# Altium integrated library ON Semi Rectifiers.IntLib: 435 symbols (part 6 of 10)
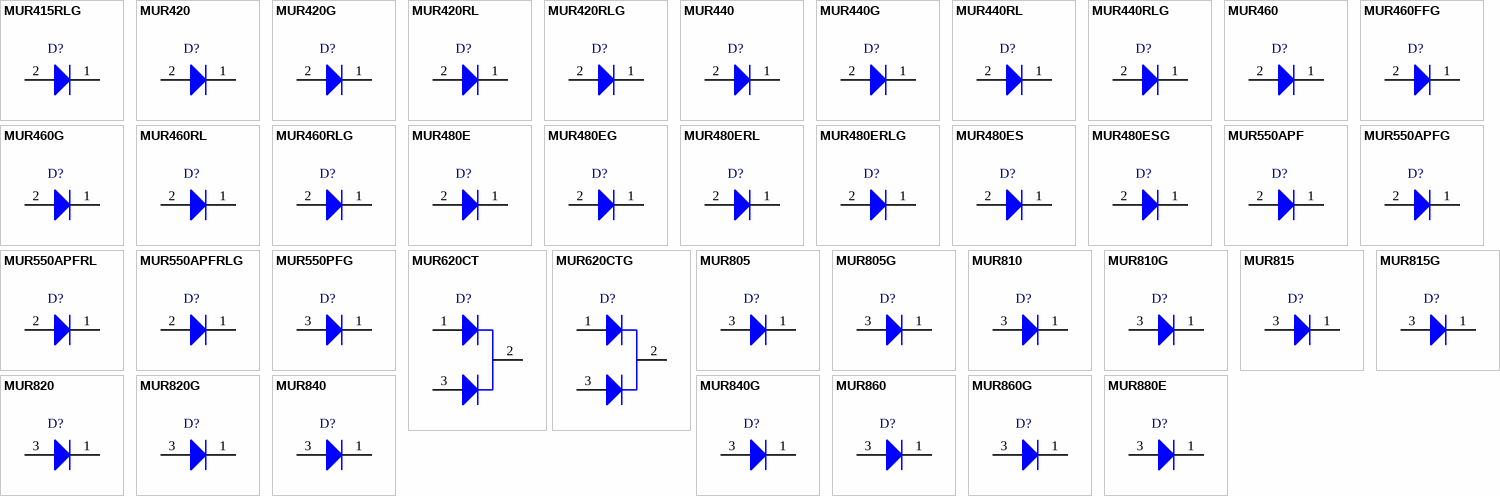
[diagram p15: symbols MUR415RLG to MUR880E]

## MUR860G
designator D?
SWITCHMODE(TM) Power Rectifier, 2-Pin TO-220, Pb-Free, Tube; Manufacturer: On Semiconductor; PartNumber: MUR860G; IFSM Max (A): 100; Type: Ultrafast; VRRM Max (V): 600; DatasheetVersion: Rev. 13; PackageVersion: Rev. F, 04/2013; PackageReference: TO-220-2-221B-04; PackageDescription: 2-Pin Flange Mount, Vertical Straight Lead, Body 9.97 x 4.44 mm, Pitch 5.08 mm; Supplier 1: Digi-Key; Supplier Part Number 1: MUR860GOS-ND; Supplier 2: Farnell; Supplier Part Number 2: 9557512; Supplier 3: Newark; Supplier Part Number 3: 45J1749; Supplier 4: Mouser; Supplier Part Number 4: 863-MUR860G; Packing: Tube; RoHS: TRUE; Mounting Technology: Through Hole; ComponentLink1Description: Manufacturer URL; ComponentLink1URL: http://www.onsemi.com/; ComponentLink2Description: Datasheet; ComponentLink2URL: http://www.onsemi.cn/pub_link/Collateral/MUR820-D.PDF; ComponentLink3Description: Package Specification; ComponentLink3URL: http://www.onsemi.com/pub_link/Collateral/221B-04.PDF
footprint ONSC-TO-220-2-221B-04 (FM, 2-Leads, Body 10.3x4.85mm, Pitch 5.08mm)
pins: 1 K, 3 A

## MUR880E
designator D?
SWITCHMODE(TM) Power Rectifier, Ultrafast 'E' Series with High Reverse Energy Capability, 2-Pin TO-220, Tube; Manufacturer: On Semiconductor; PartNumber: MUR880E; IFSM Max (A): 100; VRRM Max (V): 800; DatasheetVersion: Rev. 4; PackageVersion: Rev. E; PackageReference: TO-220-2-221B-04_E; PackageDescription: 2-Pin Flange Mount, Vertical Straight Lead, Body 9.97 x 4.44 mm, Pitch 5.08 mm; Supplier 1: Digi-Key; Supplier Part Number 1: MUR880EOS-ND; Packing: Tube; RoHS: FALSE; Type: Ultrafast; Mounting Technology: Through Hole; ComponentLink1Description: Manufacturer URL; ComponentLink1URL: http://www.onsemi.com/; ComponentLink2Description: Datasheet; ComponentLink2URL: http://www.onsemi.cn/pub_link/Collateral/MUR8100E-D.PDF; ComponentLink3Description: Package Specification; ComponentLink3URL: http://www.onsemi.com/pub_link/Collateral/BYW29-D.PDF
footprint ONSC-TO-220-2-221B-04_E (FM, 2-Leads, Body 10.3x4.85mm, Pitch 5.08mm)
pins: 1 K, 3 A

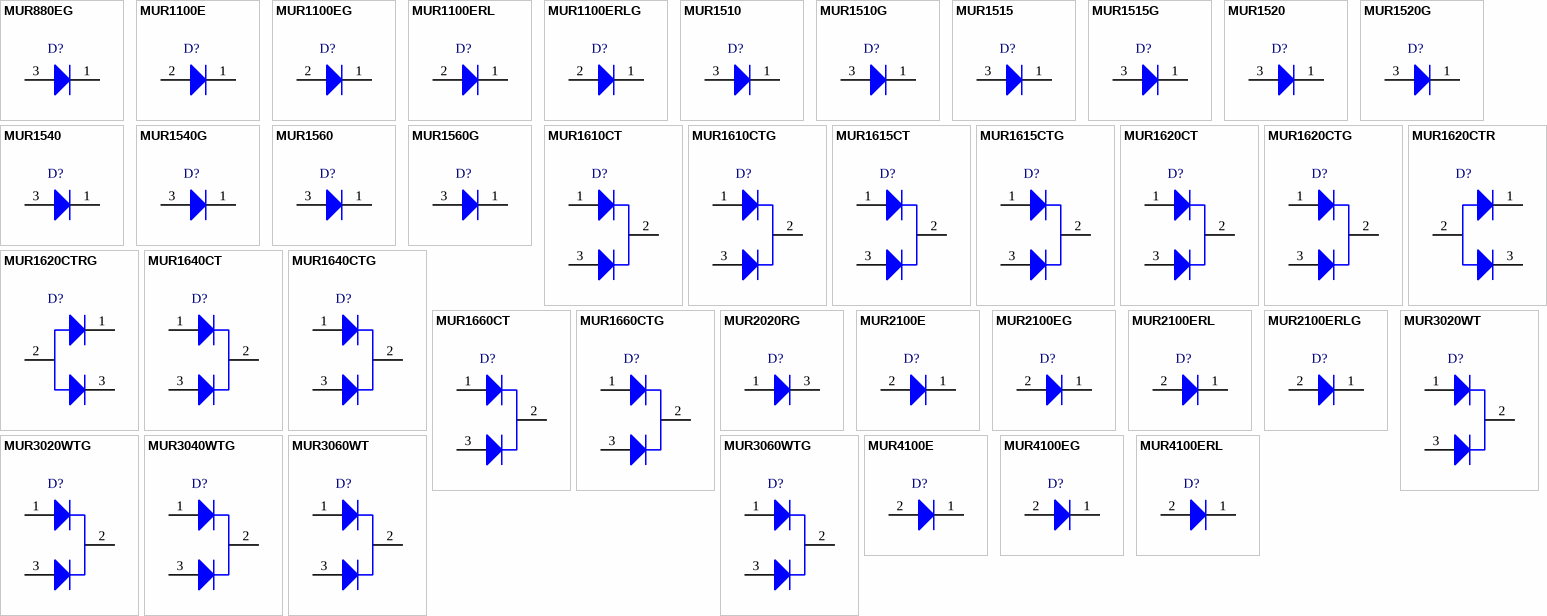
[diagram p6: symbols MUR880EG to MUR4100ERL]

## MUR880EG
designator D?
SWITCHMODE(TM) Power Rectifier, Ultrafast 'E' Series with High Reverse Energy Capability, 2-Pin TO-220, Pb-Free, Tube; Manufacturer: On Semiconductor; PartNumber: MUR880EG; IFSM Max (A): 100; VRRM Max (V): 800; DatasheetVersion: Rev. 4; PackageVersion: Rev. E; PackageReference: TO-220-2-221B-04_E; PackageDescription: 2-Pin Flange Mount, Vertical Straight Lead, Body 9.97 x 4.44 mm, Pitch 5.08 mm; Supplier 1: Digi-Key; Supplier Part Number 1: MUR880EGOS-ND; Supplier 2: Farnell; Supplier Part Number 2: 1130628; Supplier 3: Newark; Supplier Part Number 3: 71J6216; Supplier 4: Mouser; Supplier Part Number 4: 863-MUR880EG; Packing: Tube; RoHS: TRUE; Type: Ultrafast; Mounting Technology: Through Hole; ComponentLink1Description: Manufacturer URL; ComponentLink1URL: http://www.onsemi.com/; ComponentLink2Description: Datasheet; ComponentLink2URL: http://www.onsemi.cn/pub_link/Collateral/MUR8100E-D.PDF; ComponentLink3Description: Package Specification; ComponentLink3URL: http://www.onsemi.com/pub_link/Collateral/BYW29-D.PDF
footprint ONSC-TO-220-2-221B-04_E (FM, 2-Leads, Body 10.3x4.85mm, Pitch 5.08mm)
pins: 1 K, 3 A

## MUR1100E
designator D?
SWITCHMODE(TM) Power Rectifier, Ultrafast 'E' Series with High Reverse Energy Capability, 2-Pin Axial_Lead, Pb-Free, Bulk Bag; Manufacturer: On Semiconductor; PartNumber: MUR1100E; IFSM Max (A): 35; DatasheetVersion: Rev. 4; PackageVersion: Rev. U, 02/2005; PackageReference: AXIAL_LEAD-2-59-10; PackageDescription: 2-Pin, Axial Lead, Diameter 2.35 mm; Supplier 1: Mouser; Supplier Part Number 1: 863-MUR1100E; Packing: Bulk Bag; RoHS: TRUE; Type: Ultrafast; Mounting Technology: Through Hole; ComponentLink1Description: Manufacturer URL; ComponentLink1URL: http://www.onsemi.com/; ComponentLink2Description: Datasheet; ComponentLink2URL: http://www.onsemi.com/pub_link/Collateral/MUR180E-D.PDF; ComponentLink3Description: Package Specification; ComponentLink3URL: http://www.onsemi.cn/pub_link/Collateral/59-10.PDF
footprint ONSC-AXIAL_LEAD-2-59-10_P (AXIAL, 2-Leads, Diameter 2.35mm)
pins: 1 K, 2 A

## MUR1100EG
designator D?
SWITCHMODE(TM) Power Rectifier, Ultrafast 'E' Series with High Reverse Energy Capability, 2-Pin Axial_Lead, Pb-Free, Bulk Bag; Manufacturer: On Semiconductor; PartNumber: MUR1100EG; IFSM Max (A): 35; DatasheetVersion: Rev. 4; PackageVersion: Rev. U, 02/2005; PackageReference: AXIAL_LEAD-2-59-10; PackageDescription: 2-Pin, Axial Lead, Diameter 2.35 mm; Supplier 1: Digi-Key; Supplier Part Number 1: MUR1100EGOS-ND; Supplier 2: Farnell; Supplier Part Number 2: 2317428; Supplier 3: Newark; Supplier Part Number 3: 42K1598; Supplier 4: Mouser; Supplier Part Number 4: 863-MUR1100EG; Packing: Bulk Bag; RoHS: TRUE; Type: Ultrafast; Mounting Technology: Through Hole; ComponentLink1Description: Manufacturer URL; ComponentLink1URL: http://www.onsemi.com/; ComponentLink2Description: Datasheet; ComponentLink2URL: http://www.onsemi.com/pub_link/Collateral/MUR180E-D.PDF; ComponentLink3Description: Package Specification; ComponentLink3URL: http://www.onsemi.cn/pub_link/Collateral/59-10.PDF
footprint ONSC-AXIAL_LEAD-2-59-10_P (AXIAL, 2-Leads, Diameter 2.35mm)
pins: 1 K, 2 A

## MUR1100ERL
designator D?
SWITCHMODE(TM) Power Rectifier, Ultrafast 'E' Series with High Reverse Energy Capability, 2-Pin Axial_Lead, Pb-Free, Tape and Reel; Manufacturer: On Semiconductor; PartNumber: MUR1100ERL; IFSM Max (A): 35; DatasheetVersion: Rev. 4; PackageVersion: Rev. U, 02/2005; PackageReference: AXIAL_LEAD-2-59-10; PackageDescription: 2-Pin, Axial Lead, Diameter 2.35 mm; Supplier 1: Digi-Key; Supplier Part Number 1: MUR1100ERLOSTR-ND; Supplier 2: Mouser; Supplier Part Number 2: 863-MUR1100ERL; Packing: Tape and Reel; RoHS: TRUE; Type: Ultrafast; Mounting Technology: Through Hole; ComponentLink1Description: Manufacturer URL; ComponentLink1URL: http://www.onsemi.com/; ComponentLink2Description: Datasheet; ComponentLink2URL: http://www.onsemi.com/pub_link/Collateral/MUR180E-D.PDF; ComponentLink3Description: Package Specification; ComponentLink3URL: http://www.onsemi.cn/pub_link/Collateral/59-10.PDF
footprint ONSC-AXIAL_LEAD-2-59-10_P (AXIAL, 2-Leads, Diameter 2.35mm)
pins: 1 K, 2 A

## MUR1100ERLG
designator D?
SWITCHMODE(TM) Power Rectifier, Ultrafast 'E' Series with High Reverse Energy Capability, 2-Pin Axial_Lead, Pb-Free, Tape and Reel; Manufacturer: On Semiconductor; PartNumber: MUR1100ERLG; IFSM Max (A): 35; DatasheetVersion: Rev. 4; PackageVersion: Rev. U, 02/2005; PackageReference: AXIAL_LEAD-2-59-10; PackageDescription: 2-Pin, Axial Lead, Diameter 2.35 mm; Supplier 1: Digi-Key; Supplier Part Number 1: MUR1100ERLGOSTR-ND; Supplier 2: Digi-Key; Supplier Part Number 2: MUR1100ERLGOSCT-ND; Supplier 3: Farnell; Supplier Part Number 3: 9557016; Supplier 4: Newark; Supplier Part Number 4: 88H4946; Supplier 5: Newark; Supplier Part Number 5: 38K5828; Supplier 6: Mouser; Supplier Part Number 6: 863-MUR1100ERLG; Packing: Tape and Reel; RoHS: TRUE; Type: Ultrafast; Mounting Technology: Through Hole; ComponentLink1Description: Manufacturer URL; ComponentLink1URL: http://www.onsemi.com/; ComponentLink2Description: Datasheet; ComponentLink2URL: http://www.onsemi.com/pub_link/Collateral/MUR180E-D.PDF; ComponentLink3Description: Package Specification; ComponentLink3URL: http://www.onsemi.cn/pub_link/Collateral/59-10.PDF
footprint ONSC-AXIAL_LEAD-2-59-10_P (AXIAL, 2-Leads, Diameter 2.35mm)
pins: 1 K, 2 A

## MUR1510
designator D?
SWITCHMODE(TM) Power Rectifier, 2-Pin TO-220, Tube; Manufacturer: On Semiconductor; PartNumber: MUR1510; IFSM Max (A): 200; Type: Ultrafast; VRRM Max (V): 100; DatasheetVersion: Rev. 9; PackageVersion: Rev. E; PackageReference: TO-220-2-221B-04_E; PackageDescription: 2-Pin Flange Mount, Vertical Straight Lead, Body 9.97 x 4.44 mm, Pitch 5.08 mm; Supplier 1: Digi-Key; Supplier Part Number 1: MUR1510-ND; Packing: Tube; RoHS: FALSE; Mounting Technology: Through Hole; ComponentLink1Description: Manufacturer URL; ComponentLink1URL: http://www.onsemi.com/; ComponentLink2Description: Datasheet; ComponentLink2URL: http://www.onsemi.com/pub_link/Collateral/MUR1520-D.PDF; ComponentLink3Description: Package Specification; ComponentLink3URL: http://www.onsemi.com/pub_link/Collateral/BYW29-D.PDF
footprint ONSC-TO-220-2-221B-04_E (FM, 2-Leads, Body 10.3x4.85mm, Pitch 5.08mm)
pins: 1 K, 3 A

## MUR1510G
designator D?
SWITCHMODE(TM) Power Rectifier, 2-Pin TO-220, Pb-Free, Tube; Manufacturer: On Semiconductor; PartNumber: MUR1510G; IFSM Max (A): 200; Type: Ultrafast; VRRM Max (V): 100; DatasheetVersion: Rev. 9; PackageVersion: Rev. F, 04/2013; PackageReference: TO-220-2-221B-04; PackageDescription: 2-Pin Flange Mount, Vertical Straight Lead, Body 9.97 x 4.44 mm, Pitch 5.08 mm; Supplier 1: Digi-Key; Supplier Part Number 1: MUR1510GOS-ND; Supplier 2: Farnell; Supplier Part Number 2: 1189450; Supplier 3: Newark; Supplier Part Number 3: 45J1741; Supplier 4: Mouser; Supplier Part Number 4: 863-MUR1510G; Packing: Tube; RoHS: TRUE; Mounting Technology: Through Hole; ComponentLink1Description: Manufacturer URL; ComponentLink1URL: http://www.onsemi.com/; ComponentLink2Description: Datasheet; ComponentLink2URL: http://www.onsemi.com/pub_link/Collateral/MUR1520-D.PDF; ComponentLink3Description: Package Specification; ComponentLink3URL: http://www.onsemi.com/pub_link/Collateral/221B-04.PDF
footprint ONSC-TO-220-2-221B-04 (FM, 2-Leads, Body 10.3x4.85mm, Pitch 5.08mm)
pins: 1 K, 3 A

## MUR1515
designator D?
SWITCHMODE(TM) Power Rectifier, 2-Pin TO-220, Tube; Manufacturer: On Semiconductor; PartNumber: MUR1515; IFSM Max (A): 200; Type: Ultrafast; VRRM Max (V): 150; DatasheetVersion: Rev. 9; PackageVersion: Rev. E; PackageReference: TO-220-2-221B-04_E; PackageDescription: 2-Pin Flange Mount, Vertical Straight Lead, Body 9.97 x 4.44 mm, Pitch 5.08 mm; Supplier 1: Digi-Key; Supplier Part Number 1: MUR1515-ND; Packing: Tube; RoHS: FALSE; Mounting Technology: Through Hole; ComponentLink1Description: Manufacturer URL; ComponentLink1URL: http://www.onsemi.com/; ComponentLink2Description: Datasheet; ComponentLink2URL: http://www.onsemi.com/pub_link/Collateral/MUR1520-D.PDF; ComponentLink3Description: Package Specification; ComponentLink3URL: http://www.onsemi.com/pub_link/Collateral/BYW29-D.PDF
footprint ONSC-TO-220-2-221B-04_E (FM, 2-Leads, Body 10.3x4.85mm, Pitch 5.08mm)
pins: 1 K, 3 A

## MUR1515G
designator D?
SWITCHMODE(TM) Power Rectifier, 2-Pin TO-220, Pb-Free, Tube; Manufacturer: On Semiconductor; PartNumber: MUR1515G; IFSM Max (A): 200; Type: Ultrafast; VRRM Max (V): 150; DatasheetVersion: Rev. 9; PackageVersion: Rev. E; PackageReference: TO-220-2-221B-04_E; PackageDescription: 2-Pin Flange Mount, Vertical Straight Lead, Body 9.97 x 4.44 mm, Pitch 5.08 mm; Supplier 1: Digi-Key; Supplier Part Number 1: MUR1515GOS-ND; Supplier 2: Newark; Supplier Part Number 2: 42K1606; Supplier 3: Mouser; Supplier Part Number 3: 863-MUR1515G; Packing: Tube; RoHS: TRUE; Mounting Technology: Through Hole; ComponentLink1Description: Manufacturer URL; ComponentLink1URL: http://www.onsemi.com/; ComponentLink2Description: Datasheet; ComponentLink2URL: http://www.onsemi.com/pub_link/Collateral/MUR1520-D.PDF; ComponentLink3Description: Package Specification; ComponentLink3URL: http://www.onsemi.com/pub_link/Collateral/BYW29-D.PDF
footprint ONSC-TO-220-2-221B-04_E (FM, 2-Leads, Body 10.3x4.85mm, Pitch 5.08mm)
pins: 1 K, 3 A

## MUR1520
designator D?
SWITCHMODE(TM) Power Rectifier, 2-Pin TO-220, Tube; Manufacturer: On Semiconductor; PartNumber: MUR1520; IFSM Max (A): 200; Type: Ultrafast; DatasheetVersion: Rev. 9; PackageVersion: Rev. E; PackageReference: TO-220-2-221B-04_E; PackageDescription: 2-Pin Flange Mount, Vertical Straight Lead, Body 9.97 x 4.44 mm, Pitch 5.08 mm; Supplier 1: Digi-Key; Supplier Part Number 1: MUR1520OS-ND; Packing: Tube; RoHS: FALSE; VRRM Max (V): 200; Mounting Technology: Through Hole; ComponentLink1Description: Manufacturer URL; ComponentLink1URL: http://www.onsemi.com/; ComponentLink2Description: Datasheet; ComponentLink2URL: http://www.onsemi.com/pub_link/Collateral/MUR1520-D.PDF; ComponentLink3Description: Package Specification; ComponentLink3URL: http://www.onsemi.com/pub_link/Collateral/BYW29-D.PDF
footprint ONSC-TO-220-2-221B-04_E (FM, 2-Leads, Body 10.3x4.85mm, Pitch 5.08mm)
pins: 1 K, 3 A

## MUR1520G
designator D?
SWITCHMODE(TM) Power Rectifier, 2-Pin TO-220, Pb-Free, Tube; Manufacturer: On Semiconductor; PartNumber: MUR1520G; IFSM Max (A): 200; Type: Ultrafast; DatasheetVersion: Rev. 9; PackageVersion: Rev. E; PackageReference: TO-220-2-221B-04_E; PackageDescription: 2-Pin Flange Mount, Vertical Straight Lead, Body 9.97 x 4.44 mm, Pitch 5.08 mm; Supplier 1: Digi-Key; Supplier Part Number 1: MUR1520GOS-ND; Supplier 2: Farnell; Supplier Part Number 2: 9556990; Supplier 3: Newark; Supplier Part Number 3: 98H0862; Supplier 4: Mouser; Supplier Part Number 4: 863-MUR1520G; Packing: Tube; RoHS: TRUE; VRRM Max (V): 200; Mounting Technology: Through Hole; ComponentLink1Description: Manufacturer URL; ComponentLink1URL: http://www.onsemi.com/; ComponentLink2Description: Datasheet; ComponentLink2URL: http://www.onsemi.com/pub_link/Collateral/MUR1520-D.PDF; ComponentLink3Description: Package Specification; ComponentLink3URL: http://www.onsemi.com/pub_link/Collateral/BYW29-D.PDF
footprint ONSC-TO-220-2-221B-04_E (FM, 2-Leads, Body 10.3x4.85mm, Pitch 5.08mm)
pins: 1 K, 3 A

## MUR1540
designator D?
SWITCHMODE(TM) Power Rectifier, 2-Pin TO-220, Tube; Manufacturer: On Semiconductor; PartNumber: MUR1540; IFSM Max (A): 150; Type: Ultrafast; VRRM Max (V): 400; DatasheetVersion: Rev. 9; PackageVersion: Rev. E; PackageReference: TO-220-2-221B-04_E; PackageDescription: 2-Pin Flange Mount, Vertical Straight Lead, Body 9.97 x 4.44 mm, Pitch 5.08 mm; Supplier 1: Digi-Key; Supplier Part Number 1: MUR1540OS-ND; Packing: Tube; RoHS: FALSE; Mounting Technology: Through Hole; ComponentLink1Description: Manufacturer URL; ComponentLink1URL: http://www.onsemi.com/; ComponentLink2Description: Datasheet; ComponentLink2URL: http://www.onsemi.com/pub_link/Collateral/MUR1520-D.PDF; ComponentLink3Description: Package Specification; ComponentLink3URL: http://www.onsemi.com/pub_link/Collateral/BYW29-D.PDF
footprint ONSC-TO-220-2-221B-04_E (FM, 2-Leads, Body 10.3x4.85mm, Pitch 5.08mm)
pins: 1 K, 3 A

## MUR1540G
designator D?
SWITCHMODE(TM) Power Rectifier, 2-Pin TO-220, Pb-Free, Tube; Manufacturer: On Semiconductor; PartNumber: MUR1540G; IFSM Max (A): 150; Type: Ultrafast; VRRM Max (V): 400; DatasheetVersion: Rev. 9; PackageVersion: Rev. E; PackageReference: TO-220-2-221B-04_E; PackageDescription: 2-Pin Flange Mount, Vertical Straight Lead, Body 9.97 x 4.44 mm, Pitch 5.08 mm; Supplier 1: Digi-Key; Supplier Part Number 1: MUR1540GOS-ND; Supplier 2: Farnell; Supplier Part Number 2: 1651051; Supplier 3: Newark; Supplier Part Number 3: 45J1742; Supplier 4: Newark; Supplier Part Number 4: 73T6685; Supplier 5: Mouser; Supplier Part Number 5: 863-MUR1540G; Packing: Tube; RoHS: TRUE; Mounting Technology: Through Hole; ComponentLink1Description: Manufacturer URL; ComponentLink1URL: http://www.onsemi.com/; ComponentLink2Description: Datasheet; ComponentLink2URL: http://www.onsemi.com/pub_link/Collateral/MUR1520-D.PDF; ComponentLink3Description: Package Specification; ComponentLink3URL: http://www.onsemi.com/pub_link/Collateral/BYW29-D.PDF
footprint ONSC-TO-220-2-221B-04_E (FM, 2-Leads, Body 10.3x4.85mm, Pitch 5.08mm)
pins: 1 K, 3 A

## MUR1560
designator D?
SWITCHMODE(TM) Power Rectifier, 2-Pin TO-220, Tube; Manufacturer: On Semiconductor; PartNumber: MUR1560; IFSM Max (A): 150; Type: Ultrafast; VRRM Max (V): 600; DatasheetVersion: Rev. 9; PackageVersion: Rev. E; PackageReference: TO-220-2-221B-04_E; PackageDescription: 2-Pin Flange Mount, Vertical Straight Lead, Body 9.97 x 4.44 mm, Pitch 5.08 mm; Supplier 1: Digi-Key; Supplier Part Number 1: MUR1560OS-ND; Packing: Tube; RoHS: FALSE; Mounting Technology: Through Hole; ComponentLink1Description: Manufacturer URL; ComponentLink1URL: http://www.onsemi.com/; ComponentLink2Description: Datasheet; ComponentLink2URL: http://www.onsemi.com/pub_link/Collateral/MUR1520-D.PDF; ComponentLink3Description: Package Specification; ComponentLink3URL: http://www.onsemi.com/pub_link/Collateral/BYW29-D.PDF
footprint ONSC-TO-220-2-221B-04_E (FM, 2-Leads, Body 10.3x4.85mm, Pitch 5.08mm)
pins: 1 K, 3 A

## MUR1560G
designator D?
SWITCHMODE(TM) Power Rectifier, 2-Pin TO-220, Pb-Free, Tube; Manufacturer: On Semiconductor; PartNumber: MUR1560G; IFSM Max (A): 150; Type: Ultrafast; VRRM Max (V): 600; DatasheetVersion: Rev. 9; PackageVersion: Rev. E; PackageReference: TO-220-2-221B-04_E; PackageDescription: 2-Pin Flange Mount, Vertical Straight Lead, Body 9.97 x 4.44 mm, Pitch 5.08 mm; Supplier 1: Digi-Key; Supplier Part Number 1: MUR1560GOS-ND; Supplier 2: Farnell; Supplier Part Number 2: 9557440; Supplier 3: Newark; Supplier Part Number 3: 98H0863; Supplier 4: Mouser; Supplier Part Number 4: 863-MUR1560G; Packing: Tube; RoHS: TRUE; Mounting Technology: Through Hole; ComponentLink1Description: Manufacturer URL; ComponentLink1URL: http://www.onsemi.com/; ComponentLink2Description: Datasheet; ComponentLink2URL: http://www.onsemi.com/pub_link/Collateral/MUR1520-D.PDF; ComponentLink3Description: Package Specification; ComponentLink3URL: http://www.onsemi.com/pub_link/Collateral/BYW29-D.PDF
footprint ONSC-TO-220-2-221B-04_E (FM, 2-Leads, Body 10.3x4.85mm, Pitch 5.08mm)
pins: 1 K, 3 A

## MUR1610CT
designator D?
SWITCHMODE(TM) Power Rectifier, 3-Pin TO-220, Tube; Manufacturer: On Semiconductor; PartNumber: MUR1610CT; IFSM Max (A): 100; Type: Ultrafast; DatasheetVersion: Rev. 7; PackageVersion: Rev. AF; PackageReference: TO-220-3-221A-09_AF; PackageDescription: 3-Pin Flange Mount, Vertical Straight Lead, Body 9.97 x 4.445 mm, Pitch 2.54 mm; Supplier 1: Digi-Key; Supplier Part Number 1: MUR1610CTOS-ND; Packing: Tube; RoHS: FALSE; VRRM Max (V): 100; Mounting Technology: Through Hole; ComponentLink1Description: Manufacturer URL; ComponentLink1URL: http://www.onsemi.com/; ComponentLink2Description: Datasheet; ComponentLink2URL: http://www.onsemi.cn/pub_link/Collateral/MUR1620CT-D.PDF; ComponentLink3Description: Package Specification; ComponentLink3URL: http://www.onsemi.cn/pub_link/Collateral/MCR8S-D.PDF
footprint ONSC-TO-220-3-221A-09_AF (FM, 3-Leads, Body 10.3x4.85mm, Pitch 2.54mm)
pins: 1 A1, 2 K, 3 A2

## MUR1610CTG
designator D?
SWITCHMODE(TM) Power Rectifier, 3-Pin TO-220, Pb-Free, Tube; Manufacturer: On Semiconductor; PartNumber: MUR1610CTG; IFSM Max (A): 100; Type: Ultrafast; DatasheetVersion: Rev. 7; PackageVersion: Rev. AF; PackageReference: TO-220-3-221A-09_AF; PackageDescription: 3-Pin Flange Mount, Vertical Straight Lead, Body 9.97 x 4.445 mm, Pitch 2.54 mm; Supplier 1: Digi-Key; Supplier Part Number 1: MUR1610CTGOS-ND; Supplier 2: Farnell; Supplier Part Number 2: 1136123; Supplier 3: Newark; Supplier Part Number 3: 42K1609; Supplier 4: Mouser; Supplier Part Number 4: 863-MUR1610CTG; Packing: Tube; RoHS: TRUE; VRRM Max (V): 100; Mounting Technology: Through Hole; ComponentLink1Description: Manufacturer URL; ComponentLink1URL: http://www.onsemi.com/; ComponentLink2Description: Datasheet; ComponentLink2URL: http://www.onsemi.cn/pub_link/Collateral/MUR1620CT-D.PDF; ComponentLink3Description: Package Specification; ComponentLink3URL: http://www.onsemi.cn/pub_link/Collateral/MCR8S-D.PDF
footprint ONSC-TO-220-3-221A-09_AF (FM, 3-Leads, Body 10.3x4.85mm, Pitch 2.54mm)
pins: 1 A1, 2 K, 3 A2

## MUR1615CT
designator D?
SWITCHMODE(TM) Power Rectifier, 3-Pin TO-220, Tube; Manufacturer: On Semiconductor; PartNumber: MUR1615CT; IFSM Max (A): 100; Type: Ultrafast; VRRM Max (V): 150; DatasheetVersion: Rev. 7; PackageVersion: Rev. AF; PackageReference: TO-220-3-221A-09_AF; PackageDescription: 3-Pin Flange Mount, Vertical Straight Lead, Body 9.97 x 4.445 mm, Pitch 2.54 mm; Supplier 1: Digi-Key; Supplier Part Number 1: MUR1615CTOS-ND; Packing: Tube; RoHS: FALSE; Mounting Technology: Through Hole; ComponentLink1Description: Manufacturer URL; ComponentLink1URL: http://www.onsemi.com/; ComponentLink2Description: Datasheet; ComponentLink2URL: http://www.onsemi.cn/pub_link/Collateral/MUR1620CT-D.PDF; ComponentLink3Description: Package Specification; ComponentLink3URL: http://www.onsemi.cn/pub_link/Collateral/MCR8S-D.PDF
footprint ONSC-TO-220-3-221A-09_AF (FM, 3-Leads, Body 10.3x4.85mm, Pitch 2.54mm)
pins: 1 A1, 2 K, 3 A2

## MUR1615CTG
designator D?
SWITCHMODE(TM) Power Rectifier, 3-Pin TO-220, Pb-Free, Tube; Manufacturer: On Semiconductor; PartNumber: MUR1615CTG; IFSM Max (A): 100; Type: Ultrafast; VRRM Max (V): 150; DatasheetVersion: Rev. 7; PackageVersion: Rev. AF; PackageReference: TO-220-3-221A-09_AF; PackageDescription: 3-Pin Flange Mount, Vertical Straight Lead, Body 9.97 x 4.445 mm, Pitch 2.54 mm; Supplier 1: Digi-Key; Supplier Part Number 1: MUR1615CTGOS-ND; Supplier 2: Newark; Supplier Part Number 2: 42K1610; Supplier 3: Mouser; Supplier Part Number 3: 863-MUR1615CTG; Packing: Tube; RoHS: TRUE; Mounting Technology: Through Hole; ComponentLink1Description: Manufacturer URL; ComponentLink1URL: http://www.onsemi.com/; ComponentLink2Description: Datasheet; ComponentLink2URL: http://www.onsemi.cn/pub_link/Collateral/MUR1620CT-D.PDF; ComponentLink3Description: Package Specification; ComponentLink3URL: http://www.onsemi.cn/pub_link/Collateral/MCR8S-D.PDF
footprint ONSC-TO-220-3-221A-09_AF (FM, 3-Leads, Body 10.3x4.85mm, Pitch 2.54mm)
pins: 1 A1, 2 K, 3 A2

## MUR1620CT
designator D?
SWITCHMODE(TM) Power Rectifier, 3-Pin TO-220, Tube; Manufacturer: On Semiconductor; PartNumber: MUR1620CT; IFSM Max (A): 100; Type: Ultrafast; VRRM Max (V): 200; DatasheetVersion: Rev. 7; PackageVersion: Rev. AF; PackageReference: TO-220-3-221A-09_AF; PackageDescription: 3-Pin Flange Mount, Vertical Straight Lead, Body 9.97 x 4.445 mm, Pitch 2.54 mm; Supplier 1: Digi-Key; Supplier Part Number 1: MUR1620CTOS-ND; Packing: Tube; RoHS: FALSE; Mounting Technology: Through Hole; ComponentLink1Description: Manufacturer URL; ComponentLink1URL: http://www.onsemi.com/; ComponentLink2Description: Datasheet; ComponentLink2URL: http://www.onsemi.cn/pub_link/Collateral/MUR1620CT-D.PDF; ComponentLink3Description: Package Specification; ComponentLink3URL: http://www.onsemi.cn/pub_link/Collateral/MCR8S-D.PDF
footprint ONSC-TO-220-3-221A-09_AF (FM, 3-Leads, Body 10.3x4.85mm, Pitch 2.54mm)
pins: 1 A1, 2 K, 3 A2

## MUR1620CTG
designator D?
SWITCHMODE(TM) Power Rectifier, 3-Pin TO-220, Pb-Free, Tube; Manufacturer: On Semiconductor; PartNumber: MUR1620CTG; IFSM Max (A): 100; Type: Ultrafast; VRRM Max (V): 200; DatasheetVersion: Rev. 7; PackageVersion: Rev. AF; PackageReference: TO-220-3-221A-09_AF; PackageDescription: 3-Pin Flange Mount, Vertical Straight Lead, Body 9.97 x 4.445 mm, Pitch 2.54 mm; Supplier 1: Digi-Key; Supplier Part Number 1: MUR1620CTGOS-ND; Supplier 2: Farnell; Supplier Part Number 2: 9557482; Supplier 3: Newark; Supplier Part Number 3: 45J1743; Supplier 4: Mouser; Supplier Part Number 4: 863-MUR1620CTG; Packing: Tube; RoHS: TRUE; Mounting Technology: Through Hole; ComponentLink1Description: Manufacturer URL; ComponentLink1URL: http://www.onsemi.com/; ComponentLink2Description: Datasheet; ComponentLink2URL: http://www.onsemi.cn/pub_link/Collateral/MUR1620CT-D.PDF; ComponentLink3Description: Package Specification; ComponentLink3URL: http://www.onsemi.cn/pub_link/Collateral/MCR8S-D.PDF
footprint ONSC-TO-220-3-221A-09_AF (FM, 3-Leads, Body 10.3x4.85mm, Pitch 2.54mm)
pins: 1 A1, 2 K, 3 A2

## MUR1620CTR
designator D?
SWITCHMODE(TM) Power Rectifier, 3-Pin TO-220, Tube; Manufacturer: On Semiconductor; PartNumber: MUR1620CTR; IFSM Max (A): 100; Type: Ultrafast; VRRM Max (V): 200; DatasheetVersion: Rev. 8; PackageVersion: Rev. AG, 09/2011; PackageReference: TO-220-3-221A-09; PackageDescription: 3-Pin Flange Mount, Vertical Straight Lead, Body 9.97 x 4.445 mm, Pitch 2.54 mm; Supplier 1: Digi-Key; Supplier Part Number 1: MUR1620CTROS-ND; Packing: Tube; RoHS: FALSE; Mounting Technology: Through Hole; ComponentLink1Description: Manufacturer URL; ComponentLink1URL: http://www.onsemi.com/; ComponentLink2Description: Datasheet; ComponentLink2URL: http://www.onsemi.cn/pub_link/Collateral/MUR1620CTR-D.PDF; ComponentLink3Description: Package Specification; ComponentLink3URL: http://www.onsemi.com/pub_link/Collateral/221A-09.PDF
footprint ONSC-TO-220-3-221A-09 (FM, 3-Leads, Body 10.3x4.85mm, Pitch 2.54mm)
pins: 1 K1, 2 A, 3 K2

## MUR1620CTRG
designator D?
SWITCHMODE(TM) Power Rectifier, 3-Pin TO-220, Pb-Free, Tube; Manufacturer: On Semiconductor; PartNumber: MUR1620CTRG; IFSM Max (A): 100; Type: Ultrafast; VRRM Max (V): 200; DatasheetVersion: Rev. 8; PackageVersion: Rev. AG, 09/2011; PackageReference: TO-220-3-221A-09; PackageDescription: 3-Pin Flange Mount, Vertical Straight Lead, Body 9.97 x 4.445 mm, Pitch 2.54 mm; Supplier 1: Digi-Key; Supplier Part Number 1: MUR1620CTRGOS-ND; Supplier 2: Farnell; Supplier Part Number 2: 1459141; Supplier 3: Newark; Supplier Part Number 3: 71J6213; Supplier 4: Mouser; Supplier Part Number 4: 863-MUR1620CTRG; Packing: Tube; RoHS: TRUE; Mounting Technology: Through Hole; ComponentLink1Description: Manufacturer URL; ComponentLink1URL: http://www.onsemi.com/; ComponentLink2Description: Datasheet; ComponentLink2URL: http://www.onsemi.cn/pub_link/Collateral/MUR1620CTR-D.PDF; ComponentLink3Description: Package Specification; ComponentLink3URL: http://www.onsemi.com/pub_link/Collateral/221A-09.PDF
footprint ONSC-TO-220-3-221A-09 (FM, 3-Leads, Body 10.3x4.85mm, Pitch 2.54mm)
pins: 1 K1, 2 A, 3 K2

## MUR1640CT
designator D?
SWITCHMODE(TM) Power Rectifier, 3-Pin TO-220, Tube; Manufacturer: On Semiconductor; PartNumber: MUR1640CT; IFSM Max (A): 100; Type: Ultrafast; VRRM Max (V): 400; DatasheetVersion: Rev. 7; PackageVersion: Rev. AF; PackageReference: TO-220-3-221A-09_AF; PackageDescription: 3-Pin Flange Mount, Vertical Straight Lead, Body 9.97 x 4.445 mm, Pitch 2.54 mm; Supplier 1: Digi-Key; Supplier Part Number 1: MUR1640CTOS-ND; Packing: Tube; RoHS: FALSE; Mounting Technology: Through Hole; ComponentLink1Description: Manufacturer URL; ComponentLink1URL: http://www.onsemi.com/; ComponentLink2Description: Datasheet; ComponentLink2URL: http://www.onsemi.cn/pub_link/Collateral/MUR1620CT-D.PDF; ComponentLink3Description: Package Specification; ComponentLink3URL: http://www.onsemi.cn/pub_link/Collateral/MCR8S-D.PDF
footprint ONSC-TO-220-3-221A-09_AF (FM, 3-Leads, Body 10.3x4.85mm, Pitch 2.54mm)
pins: 1 A1, 2 K, 3 A2

## MUR1640CTG
designator D?
SWITCHMODE(TM) Power Rectifier, 3-Pin TO-220, Pb-Free, Tube; Manufacturer: On Semiconductor; PartNumber: MUR1640CTG; IFSM Max (A): 100; Type: Ultrafast; VRRM Max (V): 400; DatasheetVersion: Rev. 7; PackageVersion: Rev. AF; PackageReference: TO-220-3-221A-09_AF; PackageDescription: 3-Pin Flange Mount, Vertical Straight Lead, Body 9.97 x 4.445 mm, Pitch 2.54 mm; Supplier 1: Digi-Key; Supplier Part Number 1: MUR1640CTGOS-ND; Supplier 2: Farnell; Supplier Part Number 2: 1459142; Supplier 3: Newark; Supplier Part Number 3: 45J1744; Supplier 4: Mouser; Supplier Part Number 4: 863-MUR1640CTG; Packing: Tube; RoHS: TRUE; Mounting Technology: Through Hole; ComponentLink1Description: Manufacturer URL; ComponentLink1URL: http://www.onsemi.com/; ComponentLink2Description: Datasheet; ComponentLink2URL: http://www.onsemi.cn/pub_link/Collateral/MUR1620CT-D.PDF; ComponentLink3Description: Package Specification; ComponentLink3URL: http://www.onsemi.cn/pub_link/Collateral/MCR8S-D.PDF
footprint ONSC-TO-220-3-221A-09_AF (FM, 3-Leads, Body 10.3x4.85mm, Pitch 2.54mm)
pins: 1 A1, 2 K, 3 A2

## MUR1660CT
designator D?
SWITCHMODE(TM) Power Rectifier, 3-Pin TO-220, Tube; Manufacturer: On Semiconductor; PartNumber: MUR1660CT; IFSM Max (A): 100; Type: Ultrafast; VRRM Max (V): 600; DatasheetVersion: Rev. 7; PackageVersion: Rev. AF; PackageReference: TO-220-3-221A-09_AF; PackageDescription: 3-Pin Flange Mount, Vertical Straight Lead, Body 9.97 x 4.445 mm, Pitch 2.54 mm; Supplier 1: Digi-Key; Supplier Part Number 1: MUR1660CTOS-ND; Packing: Tube; RoHS: FALSE; Mounting Technology: Through Hole; ComponentLink1Description: Manufacturer URL; ComponentLink1URL: http://www.onsemi.com/; ComponentLink2Description: Datasheet; ComponentLink2URL: http://www.onsemi.cn/pub_link/Collateral/MUR1620CT-D.PDF; ComponentLink3Description: Package Specification; ComponentLink3URL: http://www.onsemi.cn/pub_link/Collateral/MCR8S-D.PDF
footprint ONSC-TO-220-3-221A-09_AF (FM, 3-Leads, Body 10.3x4.85mm, Pitch 2.54mm)
pins: 1 A1, 2 K, 3 A2

## MUR1660CTG
designator D?
SWITCHMODE(TM) Power Rectifier, 3-Pin TO-220, Pb-Free, Tube; Manufacturer: On Semiconductor; PartNumber: MUR1660CTG; IFSM Max (A): 100; Type: Ultrafast; VRRM Max (V): 600; DatasheetVersion: Rev. 7; PackageVersion: Rev. AF; PackageReference: TO-220-3-221A-09_AF; PackageDescription: 3-Pin Flange Mount, Vertical Straight Lead, Body 9.97 x 4.445 mm, Pitch 2.54 mm; Supplier 1: Digi-Key; Supplier Part Number 1: MUR1660CTGOS-ND; Supplier 2: Farnell; Supplier Part Number 2: 9557504; Supplier 3: Newark; Supplier Part Number 3: 71J6214; Supplier 4: Mouser; Supplier Part Number 4: 863-MUR1660CTG; Packing: Tube; RoHS: TRUE; Mounting Technology: Through Hole; ComponentLink1Description: Manufacturer URL; ComponentLink1URL: http://www.onsemi.com/; ComponentLink2Description: Datasheet; ComponentLink2URL: http://www.onsemi.cn/pub_link/Collateral/MUR1620CT-D.PDF; ComponentLink3Description: Package Specification; ComponentLink3URL: http://www.onsemi.cn/pub_link/Collateral/MCR8S-D.PDF
footprint ONSC-TO-220-3-221A-09_AF (FM, 3-Leads, Body 10.3x4.85mm, Pitch 2.54mm)
pins: 1 A1, 2 K, 3 A2

## MUR2020RG
designator D?
SWITCHMODE(TM) Ultrafast Power Rectifier, 2-Pin TO-220, Pb-Free, Tube; Manufacturer: On Semiconductor; PartNumber: MUR2020RG; IFSM Max (A): 250; VRRM Max (V): 200; DatasheetVersion: Rev. 5; PackageVersion: Rev. F, 04/2013; PackageReference: TO-220-2-221B-04; PackageDescription: 2-Pin Flange Mount, Vertical Straight Lead, Body 9.97 x 4.44 mm, Pitch 5.08 mm; Supplier 1: Digi-Key; Supplier Part Number 1: MUR2020RGOS-ND; Supplier 2: Farnell; Supplier Part Number 2: 1136126; Supplier 3: Newark; Supplier Part Number 3: 42K1613; Supplier 4: Mouser; Supplier Part Number 4: 863-MUR2020RG; Packing: Tube; RoHS: TRUE; Type: Ultrafast; Mounting Technology: Through Hole; ComponentLink1Description: Manufacturer URL; ComponentLink1URL: http://www.onsemi.com/; ComponentLink2Description: Datasheet; ComponentLink2URL: http://www.onsemi.cn/pub_link/Collateral/MUR2020R-D.PDF; ComponentLink3Description: Package Specification; ComponentLink3URL: http://www.onsemi.com/pub_link/Collateral/221B-04.PDF
footprint ONSC-TO-220-2-221B-04 (FM, 2-Leads, Body 10.3x4.85mm, Pitch 5.08mm)
pins: 1 A, 3 K

## MUR2100E
designator D?
SWITCHMODE(TM) Power Rectifier, Ultrafast 'E' Series with High Reverse Energy Capability, 2-Pin Axial_Lead, Pb-Free, Bulk Box; Manufacturer: On Semiconductor; PartNumber: MUR2100E; IFSM Max (A): 35; VRRM Max (V): 1000; DatasheetVersion: Rev. 6; PackageVersion: Rev. U, 02/2005; PackageReference: AXIAL_LEAD-2-59-10; PackageDescription: 2-Pin, Axial Lead, Diameter 2.35 mm; Supplier 1: Digi-Key; Supplier Part Number 1: MUR2100E-ND; Supplier 2: Mouser; Supplier Part Number 2: 863-MUR2100E; Packing: Bulk Box; RoHS: TRUE; Type: Ultrafast; Mounting Technology: Through Hole; ComponentLink1Description: Manufacturer URL; ComponentLink1URL: http://www.onsemi.com/; ComponentLink2Description: Datasheet; ComponentLink2URL: http://www.onsemi.cn/pub_link/Collateral/MUR2100E-D.PDF; ComponentLink3Description: Package Specification; ComponentLink3URL: http://www.onsemi.cn/pub_link/Collateral/59-10.PDF
footprint ONSC-AXIAL_LEAD-2-59-10_P (AXIAL, 2-Leads, Diameter 2.35mm)
pins: 1 K, 2 A

## MUR2100EG
designator D?
SWITCHMODE(TM) Power Rectifier, Ultrafast 'E' Series with High Reverse Energy Capability, 2-Pin Axial_Lead, Pb-Free, Bulk Bag; Manufacturer: On Semiconductor; PartNumber: MUR2100EG; IFSM Max (A): 35; VRRM Max (V): 1000; DatasheetVersion: Rev. 6; PackageVersion: Rev. U, 02/2005; PackageReference: AXIAL_LEAD-2-59-10; PackageDescription: 2-Pin, Axial Lead, Diameter 2.35 mm; Supplier 1: Digi-Key; Supplier Part Number 1: MUR2100EGOS-ND; Supplier 2: Farnell; Supplier Part Number 2: 1459143; Supplier 3: Newark; Supplier Part Number 3: 42K1616; Supplier 4: Mouser; Supplier Part Number 4: 863-MUR2100EG; Packing: Bulk Bag; RoHS: TRUE; Type: Ultrafast; Mounting Technology: Through Hole; ComponentLink1Description: Manufacturer URL; ComponentLink1URL: http://www.onsemi.com/; ComponentLink2Description: Datasheet; ComponentLink2URL: http://www.onsemi.cn/pub_link/Collateral/MUR2100E-D.PDF; ComponentLink3Description: Package Specification; ComponentLink3URL: http://www.onsemi.cn/pub_link/Collateral/59-10.PDF
footprint ONSC-AXIAL_LEAD-2-59-10_P (AXIAL, 2-Leads, Diameter 2.35mm)
pins: 1 K, 2 A

## MUR2100ERL
designator D?
SWITCHMODE(TM) Power Rectifier, Ultrafast 'E' Series with High Reverse Energy Capability, 2-Pin Axial_Lead, Pb-Free, Tape and Reel; Manufacturer: On Semiconductor; PartNumber: MUR2100ERL; IFSM Max (A): 35; VRRM Max (V): 1000; DatasheetVersion: Rev. 6; PackageVersion: Rev. U, 02/2005; PackageReference: AXIAL_LEAD-2-59-10; PackageDescription: 2-Pin, Axial Lead, Diameter 2.35 mm; Supplier 1: Digi-Key; Supplier Part Number 1: MUR2100ERL-ND; Supplier 2: Mouser; Supplier Part Number 2: 863-MUR2100ERL; Packing: Tape and Reel; RoHS: TRUE; Type: Ultrafast; Mounting Technology: Through Hole; ComponentLink1Description: Manufacturer URL; ComponentLink1URL: http://www.onsemi.com/; ComponentLink2Description: Datasheet; ComponentLink2URL: http://www.onsemi.cn/pub_link/Collateral/MUR2100E-D.PDF; ComponentLink3Description: Package Specification; ComponentLink3URL: http://www.onsemi.cn/pub_link/Collateral/59-10.PDF
footprint ONSC-AXIAL_LEAD-2-59-10_P (AXIAL, 2-Leads, Diameter 2.35mm)
pins: 1 K, 2 A

## MUR2100ERLG
designator D?
SWITCHMODE(TM) Power Rectifier, Ultrafast 'E' Series with High Reverse Energy Capability, 2-Pin Axial_Lead, Pb-Free, Tape and Reel; Manufacturer: On Semiconductor; PartNumber: MUR2100ERLG; IFSM Max (A): 35; VRRM Max (V): 1000; DatasheetVersion: Rev. 6; PackageVersion: Rev. U, 02/2005; PackageReference: AXIAL_LEAD-2-59-10; PackageDescription: 2-Pin, Axial Lead, Diameter 2.35 mm; Supplier 1: Digi-Key; Supplier Part Number 1: MUR2100ERLGOSTR-ND; Supplier 2: Digi-Key; Supplier Part Number 2: MUR2100ERLGOSCT-ND; Supplier 3: Newark; Supplier Part Number 3: 42K1617; Supplier 4: Mouser; Supplier Part Number 4: 863-MUR2100ERLG; Packing: Tape and Reel; RoHS: TRUE; Type: Ultrafast; Mounting Technology: Through Hole; ComponentLink1Description: Manufacturer URL; ComponentLink1URL: http://www.onsemi.com/; ComponentLink2Description: Datasheet; ComponentLink2URL: http://www.onsemi.cn/pub_link/Collateral/MUR2100E-D.PDF; ComponentLink3Description: Package Specification; ComponentLink3URL: http://www.onsemi.cn/pub_link/Collateral/59-10.PDF
footprint ONSC-AXIAL_LEAD-2-59-10_P (AXIAL, 2-Leads, Diameter 2.35mm)
pins: 1 K, 2 A

## MUR3020WT
designator D?
SWITCHMODE(TM) Power Rectifier, 3-Pin TO-247, Tube; Manufacturer: On Semiconductor; PartNumber: MUR3020WT; IFSM Max (A): 200; Type: Ultrafast; DatasheetVersion: Rev. 6; PackageVersion: Rev. F, 10/2011; PackageReference: TO-247-3-340L-02; PackageDescription: 3-Pin Flange Mount, Vertical Straight Lead, Body 16.005 x 5 mm, Pitch 5.45 mm; Supplier 1: Digi-Key; Supplier Part Number 1: MUR3020WTOS-ND; Packing: Tube; RoHS: FALSE; VRRM Max (V): 200; Mounting Technology: Through Hole; ComponentLink1Description: Manufacturer URL; ComponentLink1URL: http://www.onsemi.com/; ComponentLink2Description: Datasheet; ComponentLink2URL: http://www.onsemi.cn/pub_link/Collateral/MUR3020WT-D.PDF; ComponentLink3Description: Package Specification; ComponentLink3URL: http://www.onsemi.cn/pub_link/Collateral/340L-02.PDF
footprint ONSC-TO-247-3-340L-02 (FM, 3-Leads, Body 16.3x5.3mm, Pitch 5.45mm)
pins: 1 A1, 2 K, 3 A2

## MUR3020WTG
designator D?
SWITCHMODE(TM) Power Rectifier, 3-Pin TO-247, Pb-Free, Tube; Manufacturer: On Semiconductor; PartNumber: MUR3020WTG; IFSM Max (A): 200; Type: Ultrafast; DatasheetVersion: Rev. 6; PackageVersion: Rev. F, 10/2011; PackageReference: TO-247-3-340L-02; PackageDescription: 3-Pin Flange Mount, Vertical Straight Lead, Body 16.005 x 5 mm, Pitch 5.45 mm; Supplier 1: Digi-Key; Supplier Part Number 1: MUR3020WTGOS-ND; Supplier 2: Newark; Supplier Part Number 2: 45J1746; Supplier 3: Mouser; Supplier Part Number 3: 863-MUR3020WTG; Packing: Tube; RoHS: TRUE; VRRM Max (V): 200; Mounting Technology: Through Hole; ComponentLink1Description: Manufacturer URL; ComponentLink1URL: http://www.onsemi.com/; ComponentLink2Description: Datasheet; ComponentLink2URL: http://www.onsemi.cn/pub_link/Collateral/MUR3020WT-D.PDF; ComponentLink3Description: Package Specification; ComponentLink3URL: http://www.onsemi.cn/pub_link/Collateral/340L-02.PDF
footprint ONSC-TO-247-3-340L-02 (FM, 3-Leads, Body 16.3x5.3mm, Pitch 5.45mm)
pins: 1 A1, 2 K, 3 A2

## MUR3040WTG
designator D?
SWITCHMODE(TM) Power Rectifier, 3-Pin TO-247, Pb-Free, Tube; Manufacturer: On Semiconductor; PartNumber: MUR3040WTG; IFSM Max (A): 150; Type: Ultrafast; VRRM Max (V): 400; DatasheetVersion: Rev. 6; PackageVersion: Rev. F, 10/2011; PackageReference: TO-247-3-340L-02; PackageDescription: 3-Pin Flange Mount, Vertical Straight Lead, Body 16.005 x 5 mm, Pitch 5.45 mm; Supplier 1: Digi-Key; Supplier Part Number 1: MUR3040WTGOS-ND; Supplier 2: Newark; Supplier Part Number 2: 52T8182; Supplier 3: Mouser; Supplier Part Number 3: 863-MUR3040WTG; Packing: Tube; RoHS: TRUE; Mounting Technology: Through Hole; ComponentLink1Description: Manufacturer URL; ComponentLink1URL: http://www.onsemi.com/; ComponentLink2Description: Datasheet; ComponentLink2URL: http://www.onsemi.cn/pub_link/Collateral/MUR3020WT-D.PDF; ComponentLink3Description: Package Specification; ComponentLink3URL: http://www.onsemi.cn/pub_link/Collateral/340L-02.PDF
footprint ONSC-TO-247-3-340L-02 (FM, 3-Leads, Body 16.3x5.3mm, Pitch 5.45mm)
pins: 1 A1, 2 K, 3 A2

## MUR3060WT
designator D?
SWITCHMODE(TM) Power Rectifier, 3-Pin TO-247, Tube; Manufacturer: On Semiconductor; PartNumber: MUR3060WT; IFSM Max (A): 150; Type: Ultrafast; VRRM Max (V): 600; DatasheetVersion: Rev. 6; PackageVersion: Rev. F, 10/2011; PackageReference: TO-247-3-340L-02; PackageDescription: 3-Pin Flange Mount, Vertical Straight Lead, Body 16.005 x 5 mm, Pitch 5.45 mm; Supplier 1: Digi-Key; Supplier Part Number 1: MUR3060WTOS-ND; Packing: Tube; RoHS: FALSE; Mounting Technology: Through Hole; ComponentLink1Description: Manufacturer URL; ComponentLink1URL: http://www.onsemi.com/; ComponentLink2Description: Datasheet; ComponentLink2URL: http://www.onsemi.cn/pub_link/Collateral/MUR3020WT-D.PDF; ComponentLink3Description: Package Specification; ComponentLink3URL: http://www.onsemi.cn/pub_link/Collateral/340L-02.PDF
footprint ONSC-TO-247-3-340L-02 (FM, 3-Leads, Body 16.3x5.3mm, Pitch 5.45mm)
pins: 1 A1, 2 K, 3 A2

## MUR3060WTG
designator D?
SWITCHMODE(TM) Power Rectifier, 3-Pin TO-247, Pb-Free, Tube; Manufacturer: On Semiconductor; PartNumber: MUR3060WTG; IFSM Max (A): 150; Type: Ultrafast; VRRM Max (V): 600; DatasheetVersion: Rev. 6; PackageVersion: Rev. F, 10/2011; PackageReference: TO-247-3-340L-02; PackageDescription: 3-Pin Flange Mount, Vertical Straight Lead, Body 16.005 x 5 mm, Pitch 5.45 mm; Supplier 1: Digi-Key; Supplier Part Number 1: MUR3060WTGOS-ND; Supplier 2: Farnell; Supplier Part Number 2: 2101230; Supplier 3: Newark; Supplier Part Number 3: 26K4706; Supplier 4: Mouser; Supplier Part Number 4: 863-MUR3060WTG; Packing: Tube; RoHS: TRUE; Mounting Technology: Through Hole; ComponentLink1Description: Manufacturer URL; ComponentLink1URL: http://www.onsemi.com/; ComponentLink2Description: Datasheet; ComponentLink2URL: http://www.onsemi.cn/pub_link/Collateral/MUR3020WT-D.PDF; ComponentLink3Description: Package Specification; ComponentLink3URL: http://www.onsemi.cn/pub_link/Collateral/340L-02.PDF
footprint ONSC-TO-247-3-340L-02 (FM, 3-Leads, Body 16.3x5.3mm, Pitch 5.45mm)
pins: 1 A1, 2 K, 3 A2

## MUR4100E
designator D?
SWITCHMODE(TM) Power Rectifier, Ultrafast 'E' Series with High Reverse Energy Capability, 2-Pin Axial_Lead, Pb-Free, Bulk Box; Manufacturer: On Semiconductor; PartNumber: MUR4100E; IFSM Max (A): 70; DatasheetVersion: Rev. 9; PackageVersion: Rev. G, 06/2000; PackageReference: AXIAL_LEAD-2-267-05; PackageDescription: 2-Pin, Axial Lead, Diameter 5.05 mm; Supplier 1: Digi-Key; Supplier Part Number 1: MUR4100E-ND; Supplier 2: Mouser; Supplier Part Number 2: 863-MUR4100E; Packing: Bulk Box; RoHS: TRUE; Type: Ultrafast; Mounting Technology: Through Hole; ComponentLink1Description: Manufacturer URL; ComponentLink1URL: http://www.onsemi.com/; ComponentLink2Description: Datasheet; ComponentLink2URL: http://www.onsemi.cn/pub_link/Collateral/MUR480E-D.PDF; ComponentLink3Description: Package Specification; ComponentLink3URL: http://www.onsemi.com/pub_link/Collateral/267-05.PDF
footprint ONSC-AXIAL_LEAD-2-267-05_V (AXIAL, 2-Leads, Diameter 5.05mm)
pins: 1 K, 2 A

## MUR4100EG
designator D?
SWITCHMODE(TM) Power Rectifier, Ultrafast 'E' Series with High Reverse Energy Capability, 2-Pin Axial_Lead, Pb-Free, Bulk Box; Manufacturer: On Semiconductor; PartNumber: MUR4100EG; IFSM Max (A): 70; DatasheetVersion: Rev. 9; PackageVersion: Rev. G, 06/2000; PackageReference: AXIAL_LEAD-2-267-05; PackageDescription: 2-Pin, Axial Lead, Diameter 5.05 mm; Supplier 1: Digi-Key; Supplier Part Number 1: MUR4100EGOS-ND; Supplier 2: Farnell; Supplier Part Number 2: 2101185; Supplier 3: Newark; Supplier Part Number 3: 42K1627; Supplier 4: Mouser; Supplier Part Number 4: 863-MUR4100EG; Packing: Bulk Box; RoHS: TRUE; Type: Ultrafast; Mounting Technology: Through Hole; ComponentLink1Description: Manufacturer URL; ComponentLink1URL: http://www.onsemi.com/; ComponentLink2Description: Datasheet; ComponentLink2URL: http://www.onsemi.cn/pub_link/Collateral/MUR480E-D.PDF; ComponentLink3Description: Package Specification; ComponentLink3URL: http://www.onsemi.com/pub_link/Collateral/267-05.PDF
footprint ONSC-AXIAL_LEAD-2-267-05_V (AXIAL, 2-Leads, Diameter 5.05mm)
pins: 1 K, 2 A

## MUR4100ERL
designator D?
SWITCHMODE(TM) Power Rectifier, Ultrafast 'E' Series with High Reverse Energy Capability, 2-Pin Axial_Lead, Pb-Free, Tape and Reel; Manufacturer: On Semiconductor; PartNumber: MUR4100ERL; IFSM Max (A): 70; DatasheetVersion: Rev. 9; PackageVersion: Rev. G, 06/2000; PackageReference: AXIAL_LEAD-2-267-05; PackageDescription: 2-Pin, Axial Lead, Diameter 5.05 mm; Supplier 1: Digi-Key; Supplier Part Number 1: MUR4100ERLOSTR-ND; Supplier 2: Mouser; Supplier Part Number 2: 863-MUR4100ERL; Packing: Tape and Reel; RoHS: TRUE; Type: Ultrafast; Mounting Technology: Through Hole; ComponentLink1Description: Manufacturer URL; ComponentLink1URL: http://www.onsemi.com/; ComponentLink2Description: Datasheet; ComponentLink2URL: http://www.onsemi.cn/pub_link/Collateral/MUR480E-D.PDF; ComponentLink3Description: Package Specification; ComponentLink3URL: http://www.onsemi.com/pub_link/Collateral/267-05.PDF
footprint ONSC-AXIAL_LEAD-2-267-05_V (AXIAL, 2-Leads, Diameter 5.05mm)
pins: 1 K, 2 A

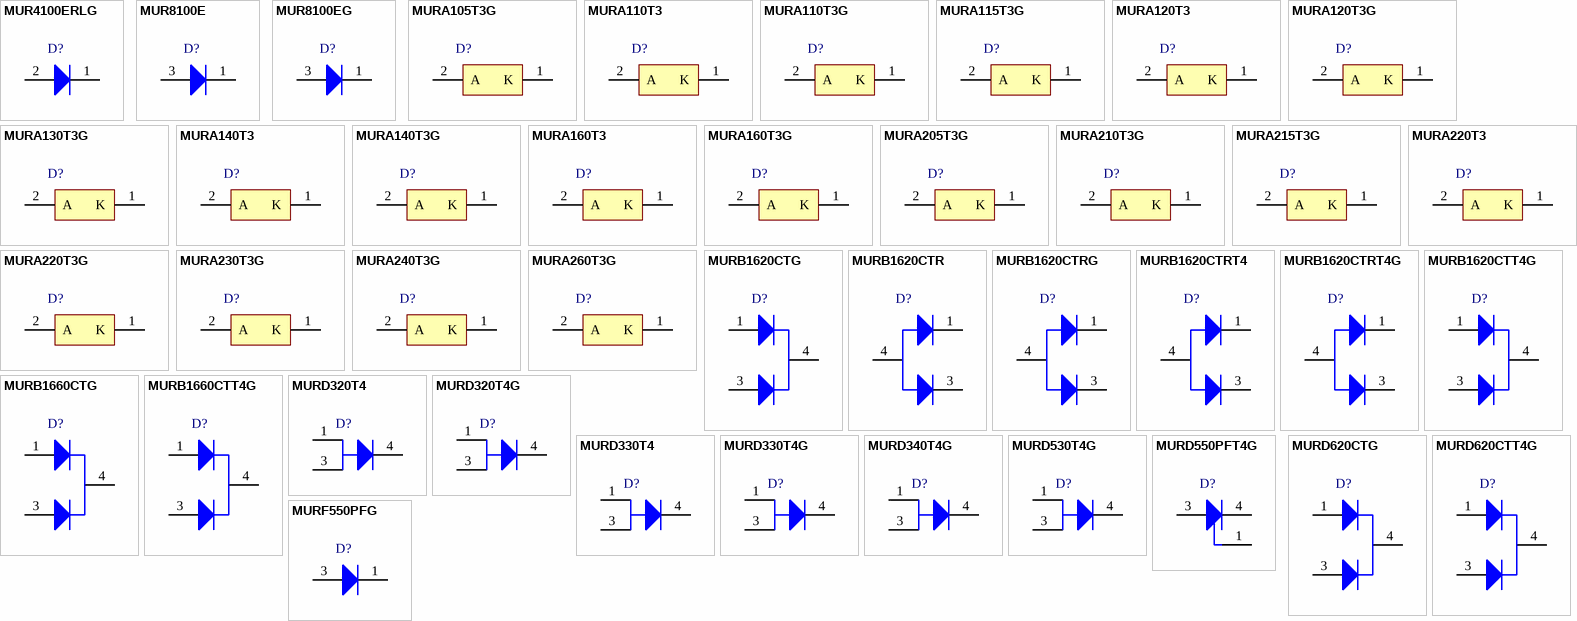
[diagram p7: symbols MUR4100ERLG to MURF550PFG]

## MUR4100ERLG
designator D?
SWITCHMODE(TM) Power Rectifier, Ultrafast 'E' Series with High Reverse Energy Capability, 2-Pin Axial_Lead, Pb-Free, Tape and Reel; Manufacturer: On Semiconductor; PartNumber: MUR4100ERLG; IFSM Max (A): 70; DatasheetVersion: Rev. 9; PackageVersion: Rev. G, 06/2000; PackageReference: AXIAL_LEAD-2-267-05; PackageDescription: 2-Pin, Axial Lead, Diameter 5.05 mm; Supplier 1: Digi-Key; Supplier Part Number 1: MUR4100ERLGOSTR-ND; Supplier 2: Digi-Key; Supplier Part Number 2: MUR4100ERLGOSCT-ND; Supplier 3: Farnell; Supplier Part Number 3: 9557024; Supplier 4: Newark; Supplier Part Number 4: 02M1500; Supplier 5: Newark; Supplier Part Number 5: 42K1628; Supplier 6: Mouser; Supplier Part Number 6: 863-MUR4100ERLG; Packing: Tape and Reel; RoHS: TRUE; Type: Ultrafast; Mounting Technology: Through Hole; ComponentLink1Description: Manufacturer URL; ComponentLink1URL: http://www.onsemi.com/; ComponentLink2Description: Datasheet; ComponentLink2URL: http://www.onsemi.cn/pub_link/Collateral/MUR480E-D.PDF; ComponentLink3Description: Package Specification; ComponentLink3URL: http://www.onsemi.com/pub_link/Collateral/267-05.PDF
footprint ONSC-AXIAL_LEAD-2-267-05_V (AXIAL, 2-Leads, Diameter 5.05mm)
pins: 1 K, 2 A

## MUR8100E
designator D?
SWITCHMODE(TM) Power Rectifier, Ultrafast 'E' Series with High Reverse Energy Capability, 2-Pin TO-220, Tube; Manufacturer: On Semiconductor; PartNumber: MUR8100E; IFSM Max (A): 100; DatasheetVersion: Rev. 4; PackageVersion: Rev. E; PackageReference: TO-220-2-221B-04_E; PackageDescription: 2-Pin Flange Mount, Vertical Straight Lead, Body 9.97 x 4.44 mm, Pitch 5.08 mm; Supplier 1: Digi-Key; Supplier Part Number 1: MUR8100EOS-ND; Packing: Tube; RoHS: FALSE; Type: Ultrafast; Mounting Technology: Through Hole; ComponentLink1Description: Manufacturer URL; ComponentLink1URL: http://www.onsemi.com/; ComponentLink2Description: Datasheet; ComponentLink2URL: http://www.onsemi.cn/pub_link/Collateral/MUR8100E-D.PDF; ComponentLink3Description: Package Specification; ComponentLink3URL: http://www.onsemi.com/pub_link/Collateral/BYW29-D.PDF
footprint ONSC-TO-220-2-221B-04_E (FM, 2-Leads, Body 10.3x4.85mm, Pitch 5.08mm)
pins: 1 K, 3 A

## MUR8100EG
designator D?
SWITCHMODE(TM) Power Rectifier, Ultrafast 'E' Series with High Reverse Energy Capability, 2-Pin TO-220, Pb-Free, Tube; Manufacturer: On Semiconductor; PartNumber: MUR8100EG; IFSM Max (A): 100; DatasheetVersion: Rev. 4; PackageVersion: Rev. E; PackageReference: TO-220-2-221B-04_E; PackageDescription: 2-Pin Flange Mount, Vertical Straight Lead, Body 9.97 x 4.44 mm, Pitch 5.08 mm; Supplier 1: Digi-Key; Supplier Part Number 1: MUR8100EGOS-ND; Supplier 2: Farnell; Supplier Part Number 2: 9557547; Supplier 3: Newark; Supplier Part Number 3: 88H4948; Supplier 4: Mouser; Supplier Part Number 4: 863-MUR8100EG; Packing: Tube; RoHS: TRUE; Type: Ultrafast; Mounting Technology: Through Hole; ComponentLink1Description: Manufacturer URL; ComponentLink1URL: http://www.onsemi.com/; ComponentLink2Description: Datasheet; ComponentLink2URL: http://www.onsemi.cn/pub_link/Collateral/MUR8100E-D.PDF; ComponentLink3Description: Package Specification; ComponentLink3URL: http://www.onsemi.com/pub_link/Collateral/BYW29-D.PDF
footprint ONSC-TO-220-2-221B-04_E (FM, 2-Leads, Body 10.3x4.85mm, Pitch 5.08mm)
pins: 1 K, 3 A

## MURA105T3G
designator D?
Surface Mount Ultrafast Power Rectifier, 2-Pin SMA, Pb-Free, Tape and Reel; Manufacturer: On Semiconductor; PartNumber: MURA105T3G; IFSM Max (A): 50; DatasheetVersion: Rev. 5; PackageVersion: Rev. G, 07/2012; PackageReference: SMA-2-403D-02; PackageDescription: 2-Pin Small Molded Package, J-Bend Lead, Body 2.605 x 4.315 mm; Supplier 1: Digi-Key; Supplier Part Number 1: MURA105T3GOSTR-ND; Supplier 2: Digi-Key; Supplier Part Number 2: MURA105T3GOSCT-ND; Supplier 3: Digi-Key; Supplier Part Number 3: MURA105T3GOSDKR-ND; Supplier 4: Farnell; Supplier Part Number 4: 1311161; Supplier 5: Newark; Supplier Part Number 5: 26K4688; Supplier 6: Mouser; Supplier Part Number 6: 863-MURA105T3G; Packing: Tape and Reel; RoHS: TRUE; Type: Ultrafast; Mounting Technology: Surface Mount; ComponentLink1Description: Manufacturer URL; ComponentLink1URL: http://www.onsemi.com/; ComponentLink2Description: Datasheet; ComponentLink2URL: http://www.onsemi.cn/pub_link/Collateral/MURA105T3-D.PDF; ComponentLink3Description: Package Specification; ComponentLink3URL: http://www.onsemi.com/pub_link/Collateral/403D-02.PDF
footprint ONSC-SMA-2-403D-02_V (Molded, 2-Leads, Body 4.57x2.92mm)
pins: 1 K, 2 A

## MURA110T3
designator D?
Surface Mount Ultrafast Power Rectifier, 2-Pin SMA, Tape and Reel; Manufacturer: On Semiconductor; PartNumber: MURA110T3; IFSM Max (A): 50; DatasheetVersion: Rev. 5; PackageVersion: Rev. G, 07/2012; PackageReference: SMA-2-403D-02; PackageDescription: 2-Pin Small Molded Package, J-Bend Lead, Body 2.605 x 4.315 mm; Supplier 1: Digi-Key; Supplier Part Number 1: MURA110T3OSCT-ND; Supplier 2: Digi-Key; Supplier Part Number 2: MURA110T3OSDKR-ND; Packing: Tape and Reel; RoHS: FALSE; Type: Ultrafast; Mounting Technology: Surface Mount; ComponentLink1Description: Manufacturer URL; ComponentLink1URL: http://www.onsemi.com/; ComponentLink2Description: Datasheet; ComponentLink2URL: http://www.onsemi.cn/pub_link/Collateral/MURA105T3-D.PDF; ComponentLink3Description: Package Specification; ComponentLink3URL: http://www.onsemi.com/pub_link/Collateral/403D-02.PDF
footprint ONSC-SMA-2-403D-02_V (Molded, 2-Leads, Body 4.57x2.92mm)
pins: 1 K, 2 A